# EAGLE library part ZM1020 (library ZM1020 - Kopie)
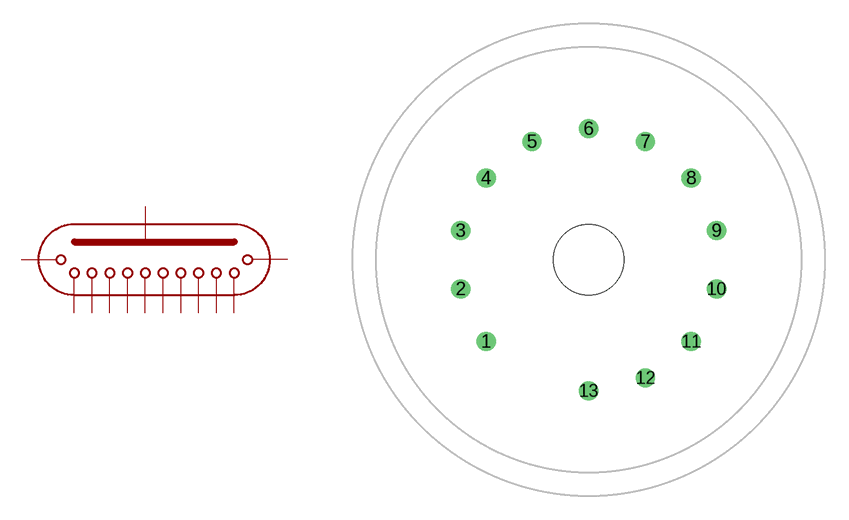
[diagram p0: symbol with the pads of ZM1020; footprint ZM1020]

Designator prefix -

## ZM1020  [ZM1020]
1  1
2  2
3  3
4  4
5  5
6  NC2
7  6
8  7
9  8
10  9
11  0
12  A
13  NC1

## Footprint ZM1020 (pad centres in mm)
drill 0.711: 1 -6.51,-5.19; 2 -8.12,-1.85; 3 -8.12,1.85; 4 -6.51,5.19; 5 -3.61,7.5; 6 0,8.325; 7 3.61,7.5; 8 6.51,5.19; 9 8.12,1.85; 10 8.12,-1.85; 11 6.51,-5.19; 12 3.61,-7.5; 13 0,-8.325
hole 4.5 at 0,0